# Altium footprint library IMX6UL_ALPHA_PCB.PcbLib: 56 footprints (part 3 of 4)
Each footprint in its own frame and in the unit in brackets; x right, y up, seen from the top. Pads: shape width x height; smd on the part's side, far side on the other; paste and mask are expansions set on the pad; w line width, h text height; cw(c..) or ccw(c..) is an arc to the next point about the centre after c.
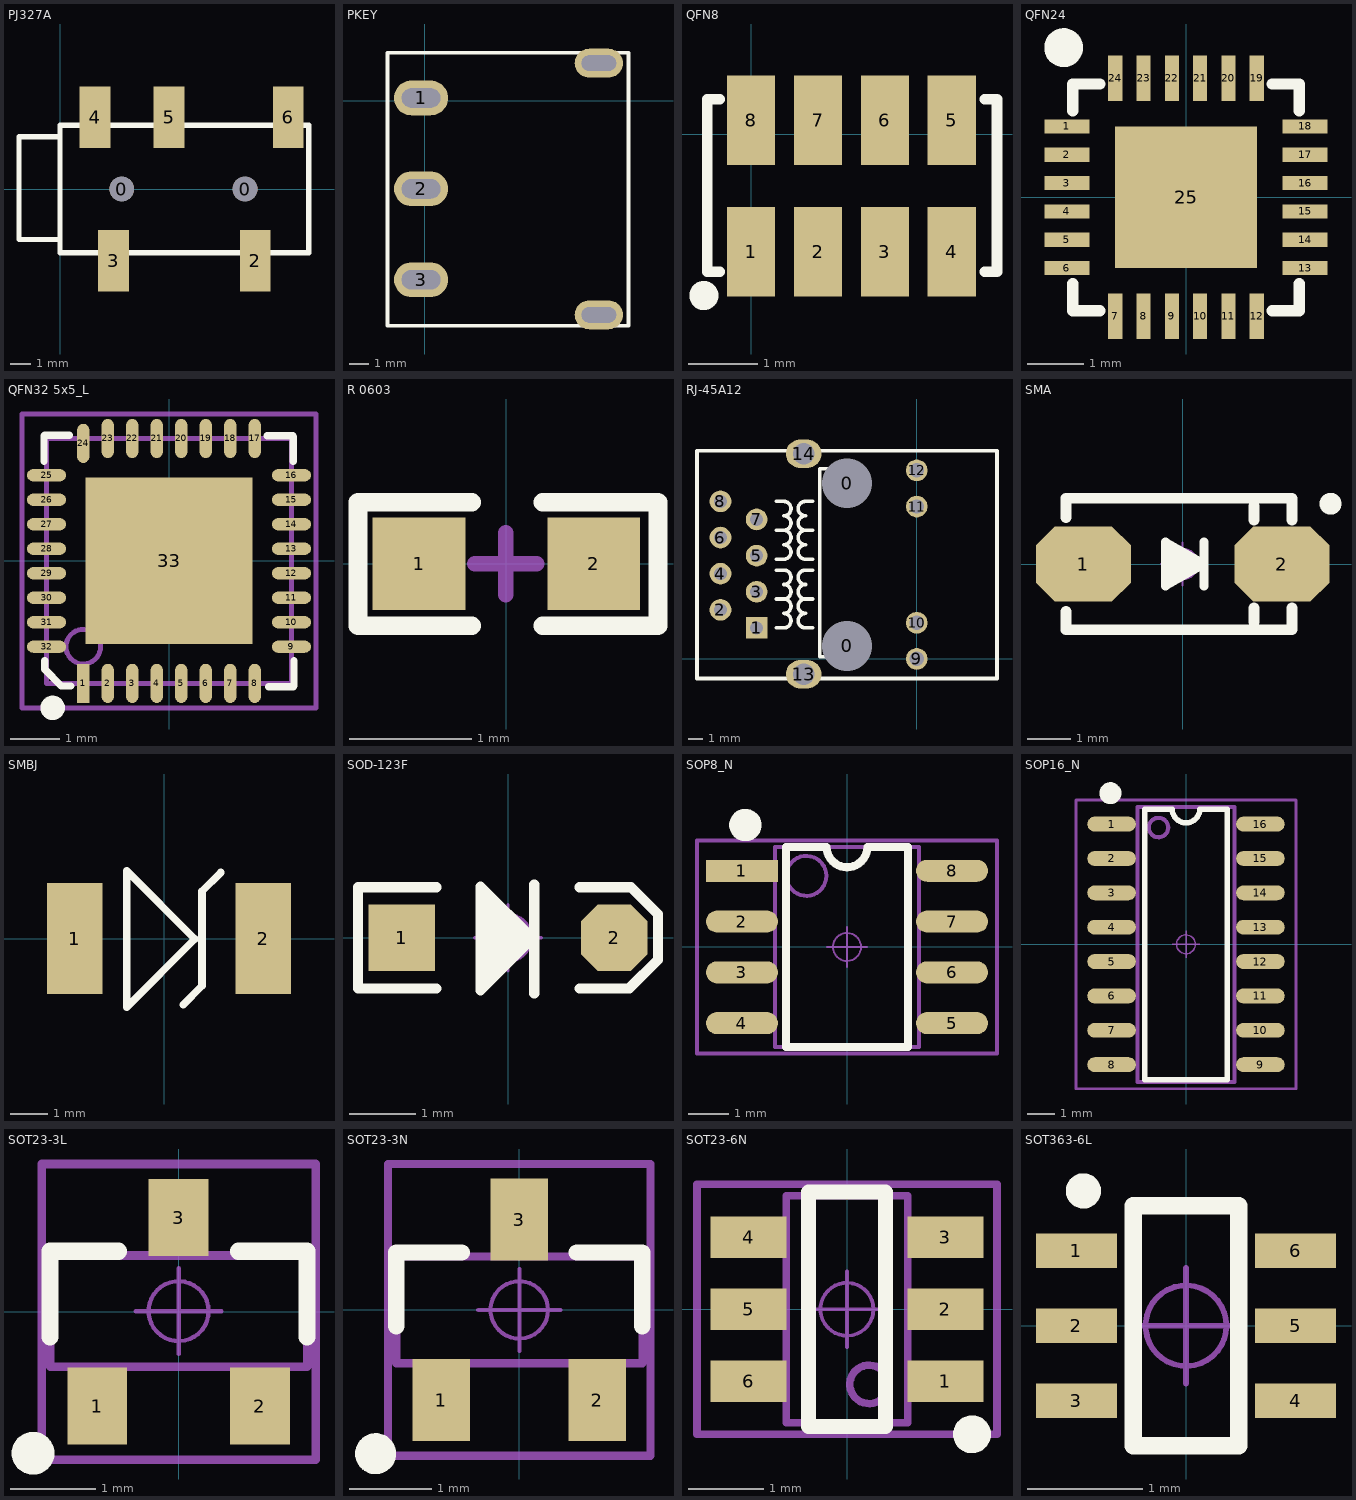
[diagram p2: the footprints below, top view; thin cyan lines are the x and y axes]

## PJ327A [mm]
pads (7):
  round 1.2 hole 1.2 unplated: 0(3,0) 0(9,0)
  rect 1.5x3 smd: 2(9.5,-3.5) 3(2.6,-3.5) 4(1.7,3.5) 5(5.3,3.5) 6(11.1,3.5)
Top Overlay:
  lines w0.254: 0,-2.46 -2,-2.46 -2,2.54 0,2.54 ; 0,-3.1 12.1,-3.1 12.1,3.1 0,3.1 0,-3.1
3D body "sj2-35863b1-smt-tr.stp": height 4.8, standoff -0.4, extent -1.95,-4.551 12.1,4.449

## PKEY [mm]
pads (5):
  oval 2.8x1.8 hole 1 slot 2 at 0 deg: 1(-0.181,0.15) 2(-0.181,-4.55) 3(-0.181,-9.25)
  oval 2.5x1.5 hole 0.8 slot 1.8 at 0 deg: ""(9.017,-11.068) ""(9.017,1.951)
Top Overlay:
  lines w0.203: -1.905,-11.634 10.541,-11.634 10.541,2.488 -1.905,2.488 -1.905,-11.634

## QFN8 [mm]
pads (8):
  rect 0.7x1.3 smd: 1(0,-1.703) 2(0.97,-1.703) 3(1.94,-1.703) 4(2.91,-1.703) 5(2.91,0.203) 6(1.94,0.203) 7(0.97,0.203) 8(0,0.203)
Top Overlay:
  circle w0.224: c-0.684,-2.337 r0.1
  lines w0.152: -0.457,-1.992 -0.635,-1.992 -0.635,0.508 -0.457,0.508 ; 3.387,-1.992 3.565,-1.992 3.565,0.508 3.387,0.508

## QFN24 [mm]
pads (25):
  rect 0.8x0.25 smd: 1(-2.101,1.25) 2(-2.101,0.75) 3(-2.101,0.25) 4(-2.101,-0.25) 5(-2.101,-0.75) 6(-2.101,-1.25) 13(2.101,-1.25) 14(2.101,-0.75) 15(2.101,-0.25) 16(2.101,0.25) 17(2.101,0.75) 18(2.101,1.25)
  rect 0.25x0.8 smd: 7(-1.25,-2.101) 8(-0.75,-2.101) 9(-0.25,-2.101) 10(0.25,-2.101) 11(0.75,-2.101) 12(1.25,-2.101) 19(1.25,2.101) 20(0.75,2.101) 21(0.25,2.101) 22(-0.25,2.101) 23(-0.75,2.101) 24(-1.25,2.101)
  rect 2.5x2.5 smd: 25(0,0)
Top Overlay:
  circle w0.381: c-2.159,2.642 r0.152
  lines w0.2: -2,-1.525 -2,-2 -1.525,-2 ; -2,1.525 -2,2 -1.525,2 ; 1.525,-2 2,-2 2,-1.525 ; 1.525,2 2,2 2,1.525

## QFN32 5x5_L [mm]
pads (33):
  rect 0.25x0.8 smd: 1(-1.751,-2.5)
  oval 0.25x0.8 smd: 2(-1.25,-2.5) 3(-0.75,-2.5) 4(-0.25,-2.5) 5(0.25,-2.5) 6(0.75,-2.5) 7(1.25,-2.5) 8(1.75,-2.5) 17(1.75,2.5) 18(1.25,2.5) 19(0.75,2.5) 20(0.25,2.5) 21(-0.25,2.5) 22(-0.75,2.5) 23(-1.25,2.5) 24(-1.75,2.4)
  oval 0.8x0.25 smd: 9(2.5,-1.75) 10(2.5,-1.25) 11(2.5,-0.75) 12(2.5,-0.25) 13(2.5,0.25) 14(2.5,0.75) 15(2.5,1.25) 16(2.5,1.75) 25(-2.5,1.75) 26(-2.5,1.25) 27(-2.5,0.75) 28(-2.5,0.25) 29(-2.5,-0.25) 30(-2.5,-0.75) 31(-2.5,-1.25) 32(-2.5,-1.75)
  rect 3.4x3.4 smd: 33(0,0)
Top Overlay:
  circle w0.25: c-2.375,-3 r0.125
  lines w0.15: -2.553,2.032 -2.553,2.553 -2.54,2.565 -2.032,2.565 ; -2.54,-2.032 -2.54,-2.21 -2.197,-2.553 -2.007,-2.553 ; 2.007,2.553 2.527,2.553 2.54,2.54 2.54,2.032 ; 2.032,-2.565 2.54,-2.565 2.553,-2.553 2.553,-2.032
Mechanical 13:
  circle w0.1: c-1.75,-1.75 r0.354
  lines w0.1: -2.501,-2.501 2.501,-2.501 2.5,-2.501 2.5,2.501 -2.501,2.501 -2.501,-2.501
Mechanical 15:
  circle w0.05: c0,0 r0.35
  lines w0.05: -0.5,0 0.5,0 ; 0,-0.5 0,0.5
  lines w0.1: -3,-3 -3,3 3,3 3,-3 -3,-3
3D body "QFN32 5x5.STEP": height 0.93, standoff 0, extent -2.501,-2.501 2.501,2.501

## R 0603 [mil]
pads (2):
  rect 30x30 smd: 1(-28.25,0) 2(28.25,0)
Top Overlay:
  lines w6: -11.25,-20.06 -48,-20.06 -48,19.94 -11.25,19.94 ; 11.75,-20.06 49,-20.06 49,19.94 11.75,19.94
Mechanical 15:
  lines w5: -10.25,0 9.75,0 ; -0.25,-10 -0.25,10
3D body "R 0603.STEP": height 15.79, standoff -0.13, extent -31.74,-15.74 31.25,15.75

## RJ-45A12 [mil]
pads (16):
  round 130 hole 137.8: 0(-192.91,35.83) 0(-192.91,485.83)
  rect 60x60 hole 35.43: 1(-442.91,85.83)
  round 60 hole 35.43: 2(-542.91,135.83) 3(-442.91,185.83) 4(-542.91,235.83) 5(-442.91,285.83) 6(-542.91,335.83) 7(-442.91,385.83) 8(-542.91,435.83)
  round 60 hole 40: 9(0,0) 10(0,100) 11(0,421.65) 12(0,521.65)
  oval 98.43x78.74 hole 59.06: 13(-312.99,-42.13) 14(-312.99,567.32)
Top Overlay:
  lines w10: -387.91,85.83 -367.91,85.83 ccw(c-367.91,105.83) -367.91,125.83 ccw(c-367.91,145.83) -367.91,165.83 ; -387.91,165.83 -367.91,165.83 ; -387.91,245.83 -367.91,245.83 cw(c-367.91,225.83) -367.91,205.83 cw(c-367.91,185.83) -367.91,165.83 ; -387.91,275.83 -367.91,275.83 ccw(c-367.91,295.83) -367.91,315.83 ccw(c-367.91,335.83) -367.91,355.83 ; -387.91,355.83 -367.91,355.83 ; -387.91,435.83 -367.91,435.83 cw(c-367.91,415.83) -367.91,395.83 cw(c-367.91,375.83) -367.91,355.83 ; -287.91,85.83 -307.91,85.83 cw(c-307.91,105.83) -307.91,125.83 cw(c-307.91,145.83) -307.91,165.83 ; -287.91,165.83 -307.91,165.83 ; -287.91,245.83 -307.91,245.83 ccw(c-307.91,225.83) -307.91,205.83 ccw(c-307.91,185.83) -307.91,165.83 ; -287.91,275.83 -307.91,275.83 cw(c-307.91,295.83) -307.91,315.83 cw(c-307.91,335.83) -307.91,355.83 ; -287.91,355.83 -307.91,355.83 ; -287.91,435.83 -307.91,435.83 ccw(c-307.91,415.83) -307.91,395.83 ccw(c-307.91,375.83) -307.91,355.83 ; -247.91,5.83 -267.91,5.83 -267.91,525.83 -247.91,525.83 ; -607.91,-54.17 222,-54.17 222,575.83 -607.91,575.83 -607.91,-54.17
3D body "HanRun-HR911105A.STEP": height 59.06, standoff -590.55, extent -605.26,-53 237.26,572.19

## SMA [mm]
pads (2):
  oct 2.2x1.75 smd: 1(-2.3,0) 2(2.3,0)
Top Overlay:
  circle w0.254: c3.429,1.397 r0.127
  lines w0.203: 0.494,-0.508 0.494,0.508 ; -0.395,-0.508 0.494,0 -0.395,0.508 -0.395,-0.508
  lines w0.254: -2.7,-1.105 -2.7,-1.524 2.54,-1.524 2.54,-1.016 ; -2.7,1.08 -2.7,1.524 2.54,1.524 2.54,1.016 ; -0.33,0.305 0.305,0 -0.254,-0.305 -0.254,0.051 0.023,0 ; 1.651,-1.35 1.651,-1.016 ; 1.651,1.016 1.651,1.35
Mechanical 15:
  circle w0.05: c0,0 r0.35
  lines w0.05: -0.5,0 0.5,0 ; 0,-0.5 0,0.5
3D body "SMA.STEP": height 2.15, standoff 0.04, extent -2.528,-1.3 2.575,1.3

## SMBJ [mm]
pads (2):
  rect 1.5x3 smd: 1(-2.413,0) 2(2.667,0)
Top Overlay:
  lines w0.203: 0.508,-1.778 1.016,-1.27 1.016,1.27 1.524,1.778 ; -1.016,-1.854 0.826,-0.013 -1.016,1.829 -1.016,-1.854

## SOD-123F [mm]
pads (2):
  rect 1x1 smd: 1(-1.6,0)
  oct 1x1 smd: 2(1.6,0)
Top Overlay:
  lines w0.152: -1.079,-0.762 -2.261,-0.762 -2.261,0.762 -1.079,0.762 ; -0.34,0.648 -0.34,-0.559 0.235,0.016 -0.206,0.457 -0.206,-0.38 0.123,-0.051 0.098,-0.051 -0.206,0.254 -0.206,-0.016 -0.024,-0.198 0.052,-0.198 -0.206,0.061 ; 0.356,-0.02 -0.417,-0.792 -0.417,0.775 0.396,-0.038 ; 0.396,-0.841 0.396,0.805 ; 1.079,-0.762 1.829,-0.762 2.261,-0.33 2.261,0.356 1.854,0.762 1.079,0.762
Mechanical 15:
  circle w0.05: c0,0 r0.35
  lines w0.05: -0.5,0 0.5,0 ; 0,-0.5 0,0.5
3D body "SOD-123F.STEP": height 1.15, standoff 0.04, extent -1.9,-0.8 1.9,0.8

## SOP8_N [mm]
pads (8):
  rect 1.8x0.55 smd: 1(-2.625,1.905)
  oval 1.8x0.55 smd: 2(-2.625,0.635) 3(-2.625,-0.635) 4(-2.625,-1.905) 5(2.625,-1.905) 6(2.625,-0.635) 7(2.625,0.635) 8(2.625,1.905)
Top Overlay:
  circle w0.5: c-2.54,3.048 r0.155
  lines w0.2: -1.524,2.5 -1.524,-2.5 1.524,-2.5 1.524,2.5
  lines w0.203: -1.524,2.5 -0.508,2.5 ccw(c0,2.5) 0,1.992 ccw(c0,2.5) 0.508,2.5 1.524,2.5
Mechanical 13:
  circle w0.1: c-1.016,1.778 r0.5
  lines w0.1: -1.8,-2.5 -1.8,2.5 1.8,2.5 1.8,-2.5 -1.8,-2.5
Mechanical 15:
  circle w0.05: c0,0 r0.35
  lines w0.05: -0.5,0 0.5,0 ; 0,-0.5 0,0.5
  lines w0.1: -3.75,-2.667 3.75,-2.667 3.75,2.667 -3.75,2.667 -3.75,-2.667
3D body "SOP8.STEP": height 1.9, standoff 0, extent -3.003,-2.5 3.003,2.5

## SOP16_N [mm]
pads (16):
  oval 1.8x0.55 smd: 1(-2.75,4.445) 2(-2.75,3.175) 3(-2.75,1.905) 4(-2.75,0.635) 5(-2.75,-0.635) 6(-2.75,-1.905) 7(-2.75,-3.175) 8(-2.75,-4.445) 9(2.75,-4.445) 10(2.75,-3.175) 11(2.75,-1.905) 12(2.75,-0.635) 13(2.75,0.635) 14(2.75,1.905) 15(2.75,3.175) 16(2.75,4.445)
Top Overlay:
  circle w0.5: c-2.794,5.588 r0.155
  lines w0.2: -1.524,5 -1.524,-5 1.524,-5 1.524,5
  lines w0.203: -1.524,5 -0.508,5 ccw(c0,5) 0,4.492 ccw(c0,5) 0.508,5 1.524,5
Mechanical 13:
  circle w0.15: c-1.016,4.318 r0.359
  lines w0.15: -1.8,-5.08 1.8,-5.08 1.8,5.08 -1.8,5.08 -1.8,-5.08
Mechanical 15:
  circle w0.05: c0,0 r0.35
  lines w0.05: -0.5,0 0.5,0 ; 0,-0.5 0,0.5
  lines w0.1: -4.064,-5.334 4.064,-5.334 4.064,5.334 -4.064,5.334 -4.064,-5.334
3D body "SOP16.STEP": height 1.9, standoff 0, extent -3.003,-5 3.003,5

## SOT23-3L [mm]
pads (3):
  rect 0.7x0.9 smd: 1(-0.95,-1.1) 2(0.95,-1.1) 3(0,1.1)
Top Overlay:
  circle w0.25: c-1.7,-1.651 r0.125
  lines w0.2: -1.5,-0.291 -1.5,0.709 -0.7,0.709 ; 0.7,0.709 1.5,0.709 1.5,-0.291
Mechanical 13:
  lines w0.1: -1.5,-0.641 1.5,-0.641 1.5,0.659 -1.5,0.659 -1.5,-0.641
Mechanical 15:
  circle w0.05: c0,0.009 r0.35
  lines w0.05: -0.5,0.009 0.5,0.009 ; 0,-0.491 0,0.509
  lines w0.1: -1.6,-1.727 1.6,-1.727 1.6,1.727 -1.6,1.727 -1.6,-1.727
3D body "SOT23-3.STEP": height 1.05, standoff 0, extent -1.5,-1.191 1.5,1.209

## SOT23-3N [mm]
pads (3):
  rect 0.7x1 smd: 1(-0.95,-1.1) 2(0.95,-1.1) 3(0,1.1)
Top Overlay:
  circle w0.25: c-1.751,-1.753 r0.125
  lines w0.2: -1.501,-0.2 -1.501,0.7 -0.701,0.7 ; 0.699,0.7 1.499,0.7 1.499,-0.2
Mechanical 13:
  lines w0.1: -1.5,-0.65 -1.5,0.65 1.5,0.65 1.5,-0.65 -1.5,-0.65
Mechanical 15:
  circle w0.05: c0,0 r0.35
  lines w0.05: -0.5,0 0.5,0 ; 0,-0.5 0,0.5
  lines w0.1: -1.6,-1.778 -1.6,1.778 1.6,1.778 1.6,-1.778 -1.6,-1.778
3D body "SOT23-3.STEP": height 1.05, standoff 0, extent -1.5,-1.2 1.5,1.2

## SOT23-6N [mm]
pads (6):
  rect 1x0.55 smd: 1(1.3,-0.95) 2(1.3,0) 3(1.3,0.95) 4(-1.3,0.95) 5(-1.3,0) 6(-1.3,-0.95)
Top Overlay:
  circle w0.25: c1.651,-1.651 r0.125
  lines w0.2: -0.508,-1.55 -0.508,1.55 0.508,1.55 0.508,-1.55 -0.508,-1.55
Mechanical 13:
  circle w0.1: c0.292,-0.992 r0.254
  lines w0.1: -0.8,-1.5 0.8,-1.5 0.8,1.5 -0.8,1.5 -0.8,-1.5
Mechanical 15:
  circle w0.05: c0,0 r0.35
  lines w0.05: -0.5,0 0.5,0 ; 0,-0.5 0,0.5
  lines w0.1: -1.981,-1.651 1.981,-1.651 1.981,1.651 -1.981,1.651 -1.981,-1.651
3D body "SOT23-6.STEP": height 1.15, standoff -0.03, extent -1.403,-1.5 1.403,1.5

## SOT363-6L [mm]
pads (6):
  rect 0.7x0.3 smd: 1(-0.95,0.65) 2(-0.95,0) 3(-0.95,-0.65) 4(0.95,-0.65) 5(0.95,0) 6(0.95,0.65)
Top Overlay:
  circle w0.152: c-0.889,1.168 r0.076
  lines w0.152: -0.457,-1.041 -0.457,1.041 0.457,1.041 0.457,-1.041 -0.457,-1.041
Mechanical 15:
  circle w0.05: c0,0 r0.35
  lines w0.05: -0.5,0 0.5,0 ; 0,-0.5 0,0.5
3D body "SW3dPS-SW3dPS-SOT363.STEP": height 1, standoff 0.01, extent -1.05,-1 1.05,1